# Altium schematic symbol library pesd2usb3ux.SchLib: 1 symbol
Pins are listed as number, name and electrical type; pins without a type are passive.

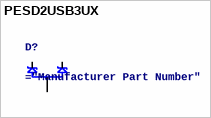
[diagram p0: symbol PESD2USB3UX]

## PESD2USB3UX
designator D?
DIODE ESD USB SOT-23
pins: 1, 2, 3